# Altium footprint library Digital ICs.PcbLib: 3 footprints
Each footprint in its own frame and in the unit in brackets; x right, y up, seen from the top. Pads: shape width x height; smd on the part's side, far side on the other; paste and mask are expansions set on the pad; w line width, h text height; cw(c..) or ccw(c..) is an arc to the next point about the centre after c.
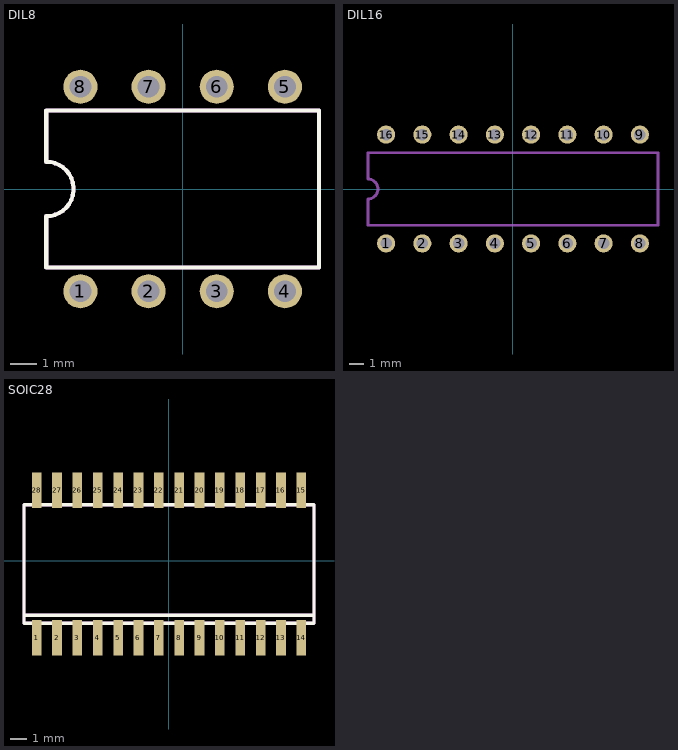
[diagram p0: the footprints below, top view; thin cyan lines are the x and y axes]

## DIL8 [mil]
pads (8):
  round 50 hole 32: 1(-150,-150) 2(-50,-150) 3(50,-150) 4(150,-150) 5(150,150) 6(50,150) 7(-50,150) 8(-150,150)
Top Overlay:
  lines w6: -200,-115 200,-115 200,115 -200,115 -200,40 cw(c-200,0) -200,-40 -200,-115
Mechanical 2:
  lines w6: -200,-115 -200,-40 ccw(c-200,0) -200,40 -200,115 200,115 200,-115 -200,-115
3D body "DIL8_SOCKET.STEP": height 180.39, standoff -115.28, extent -200,-200 200,200
3D body "SW3DPS-DIP8-DEFAULT.STEP": height 335, standoff 65, extent -225,-155 225,155

## DIL16 [mil]
pads (16):
  round 50 hole 32: 1(-350,-150) 2(-250,-150) 3(-150,-150) 4(-50,-150) 5(50,-150) 6(150,-150) 7(250,-150) 8(350,-150) 9(350,150) 10(250,150) 11(150,150) 12(50,150) 13(-50,150) 14(-150,150) 15(-250,150) 16(-350,150)
Mechanical 2:
  lines w8: -400,-100 -400,-27.5 ccw(c-400,0) -400,27.5 -400,100 400,100 400,-100 -400,-100
3D body "DIL16_SOCKET.STEP": height 180.39, standoff -115.28, extent -400,-200 400,200
3D body "DIP16.STEP": height 353.46, standoff 51.89, extent -381.89,-155 381.89,154.84

## SOIC28 [mm]
pads (28):
  rect 0.6x2.2 smd: 1(-8.24,-4.79) 2(-6.97,-4.79) 3(-5.7,-4.79) 4(-4.43,-4.79) 5(-3.16,-4.79) 6(-1.89,-4.79) 7(-0.62,-4.79) 8(0.65,-4.79) 9(1.92,-4.79) 10(3.19,-4.79) 11(4.46,-4.79) 12(5.73,-4.79) 13(7,-4.79) 14(8.27,-4.79) 15(8.27,4.41) 16(7,4.41) 17(5.73,4.41) 18(4.46,4.41) 19(3.19,4.41) 20(1.92,4.41) 21(0.65,4.41) 22(-0.62,4.41) 23(-1.89,4.41) 24(-3.16,4.41) 25(-4.43,4.41) 26(-5.7,4.41) 27(-6.97,4.41) 28(-8.24,4.41)
Top Overlay:
  lines w0.203: -9.035,-3.39 9.065,-3.39 ; -9.035,-3.39 -9.035,3.51 9.065,3.51 9.065,-3.39 ; -9.035,-3.39 -9.035,-3.89 9.065,-3.89 9.065,-3.39
Mechanical 2:
  lines w0.203: -9.035,-3.39 9.065,-3.39 ; -9.035,-3.39 -9.035,3.51 9.065,3.51 9.065,-3.39 ; -9.035,-3.39 -9.035,-3.89 9.065,-3.89 9.065,-3.39
Mechanical 18:
  rectangle: -8.485,-5.51 -7.995,-3.99
  rectangle: -7.215,-5.51 -6.725,-3.99
  rectangle: -5.945,-5.51 -5.455,-3.99
  rectangle: -4.675,-5.51 -4.185,-3.99
  rectangle: -3.405,-5.51 -2.915,-3.99
  rectangle: -2.135,-5.51 -1.645,-3.99
  rectangle: -0.865,-5.51 -0.375,-3.99
  rectangle: 0.405,-5.51 0.895,-3.99
  rectangle: 1.675,-5.51 2.165,-3.99
  rectangle: 2.945,-5.51 3.435,-3.99
  rectangle: 4.215,-5.51 4.705,-3.99
  rectangle: 5.485,-5.51 5.975,-3.99
  rectangle: 6.755,-5.51 7.245,-3.99
  rectangle: 8.025,-5.51 8.515,-3.99
  rectangle: 8.025,3.61 8.515,5.13
  rectangle: 6.755,3.61 7.245,5.13
  rectangle: 5.485,3.61 5.975,5.13
  rectangle: 4.215,3.61 4.705,5.13
  rectangle: 2.945,3.61 3.435,5.13
  rectangle: 1.675,3.61 2.165,5.13
  rectangle: 0.405,3.61 0.895,5.13
  rectangle: -0.865,3.61 -0.375,5.13
  rectangle: -2.135,3.61 -1.645,5.13
  rectangle: -3.405,3.61 -2.915,5.13
  rectangle: -4.675,3.61 -4.185,5.13
  rectangle: -5.945,3.61 -5.455,5.13
  rectangle: -7.215,3.61 -6.725,5.13
  rectangle: -8.485,3.61 -7.995,5.13
3D body "SOIC28.STEP": height 2.65, standoff 0, extent -8.95,-5.404 8.95,4.896